# Altium integrated library B8B-PH-K-S_LF__SN_.IntLib: 1 symbol
Pins are listed as number, name and electrical type; pins without a type are passive.

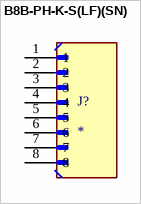
[diagram p0: symbol B8B-PH-K-S(LF)(SN)]

## B8B-PH-K-S(LF)(SN)
designator J?
Connector Header Through Hole 8 position 0.079 (2.00mm); MF: JST Sales; MP: B8B-PH-K-S(LF)(SN); SnapEDA_Link: https://www.snapeda.com/parts/B8B-PH-K-S(LF)(SN)/JST+Sales+America+Inc./view-part/?ref=snap; Package: None; Value: *; Check_prices: https://www.snapeda.com/parts/B8B-PH-K-S(LF)(SN)/JST+Sales+America+Inc./view-part/?ref=eda
footprint JST_B8B-PH-K-S(LF)(SN)
pins: 1, 2, 3, 4, 5, 6, 7, 8